# Altium schematic symbol library SCH - POWER - LINEAR VREG - TI LP3997MM-3.3.SchLib: 1 symbol
Pins are listed as number, name and electrical type; pins without a type are passive.

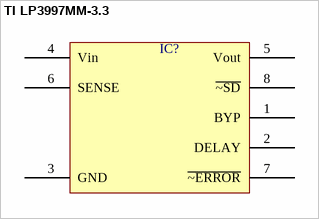
[diagram p0: symbol TI LP3997MM-3.3]

## TI LP3997MM-3.3
designator IC?  (value not drawn)
pins: 1 BYP, 2 DELAY, 3 GND, 4 Vin, 5 Vout, 6 SENSE, 7 ~{~ERROR}, 8 ~{~SD}